# Altium schematic symbol library USB3740B-AI2-TR.Schlib: 1 symbol
Pins are listed as number, name and electrical type; pins without a type are passive.

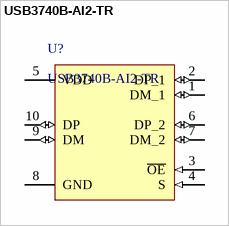
[diagram p0: symbol USB3740B-AI2-TR]

## USB3740B-AI2-TR
designator U?
USB Switch USB 2.0 - Interface 10-QFN (1.6x2.1)
pins: 1 DM_1 (io), 2 DP_1 (io), 3 ~{OE} (in), 4 S (in), 5 VDD (power), 6 DP_2 (io), 7 DM_2 (io), 8 GND (power), 9 DM (io), 10 DP (io)